# Altium schematic symbol library MIC5205-3.0YM5-TR.SchLib: 1 symbol
Pins are listed as number, name and electrical type; pins without a type are passive.

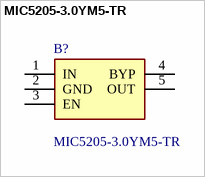
[diagram p0: symbol MIC5205-3.0YM5-TR]

## MIC5205-3.0YM5-TR
designator B?
LDO Voltage Regulators 150mA 1% Low Noise LDO; Manufacturer_Name: Microchip; Geometry.Height: 1.45mm; Mouser Part Number: 998-MIC5205-3.0YM5TR; Mouser Price/Stock: https://www.mouser.co.uk/ProductDetail/Microchip-Technology/MIC5205-3.0YM5-TR?qs=U6T8BxXiZAVZKTKJr7dRcw%3D%3D; Manufacturer_Part_Number: MIC5205-3.0YM5-TR; Datasheet Link: https://ms.componentsearchengine.com/Datasheets/2/MIC5205-3.0YM5-TR.pdf
footprint SOT95P280X145-5N
pins: 1 IN, 2 GND, 3 EN, 4 BYP, 5 OUT